# EAGLE library part JST_PUD_24P (library pimoroni-connectors)
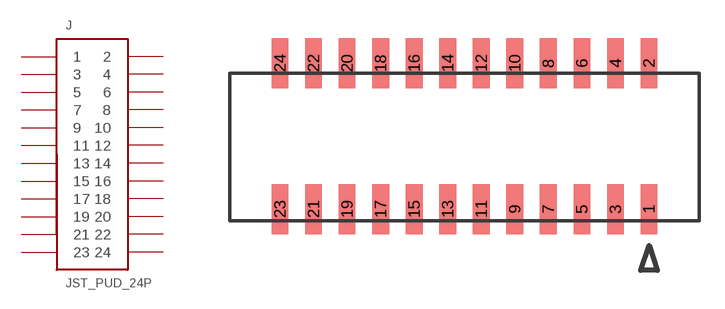
[diagram p34: symbol with the pads of JST_PUD_BM24B-PUDSS-TFC; footprint JST_PUD_BM24B-PUDSS-TFC]

Designator prefix J

## JST_PUD_24P  [JST_PUD_BM24B-PUDSS-TFC]
1  1
2  2
3  3
4  4
5  5
6  6
7  7
8  8
9  9
10  10
11  11
12  12
13  13
14  14
15  15
16  16
17  17
18  18
19  19
20  20
21  21
22  22
23  23
24  24

## Footprint JST_PUD_BM24B-PUDSS-TFC (pad centres in mm)
smd 1 x 3: 1 11,-4.35; 2 11,4.35; 3 9,-4.35; 4 9,4.35; 5 7,-4.35; 6 7,4.35; 7 5,-4.35; 8 5,4.35; 9 3,-4.35; 10 3,4.35; 11 1,-4.35; 12 1,4.35; 13 -1,-4.35; 14 -1,4.35; 15 -3,-4.35; 16 -3,4.35; 17 -5,-4.35; 18 -5,4.35; 19 -7,-4.35; 20 -7,4.35; 21 -9,-4.35; 22 -9,4.35; 23 -11,-4.35; 24 -11,4.35